# EAGLE library part JST-12 (library con-jst)
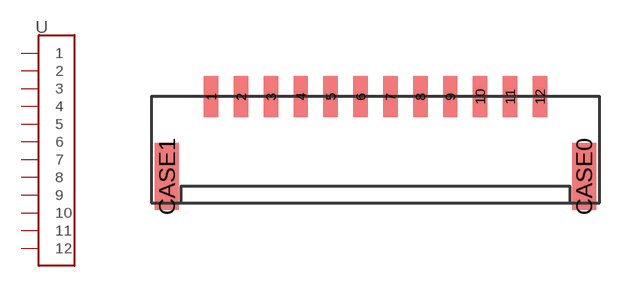
[diagram p3: symbol with the pads of GH-12-V; footprint GH-12-V]

Designator prefix -

## JST-12  [GH-12-V]
1  1
2  2
3  3
4  4
5  5
6  6
7  7
8  8
9  9
10  10
11  11
12  12

## Footprint GH-12-V (pad centres in mm)
smd 0.6 x 1.7: 1 -6.875,2.5; 2 -5.625,2.5; 3 -4.375,2.5; 4 -3.125,2.5; 5 -1.875,2.5; 6 -0.625,2.5; 7 0.625,2.5; 8 1.875,2.5; 9 3.125,2.5; 10 4.375,2.5; 11 5.625,2.5; 12 6.875,2.5
smd 1 x 2.8: CASE0 8.725,-0.85; CASE1 -8.725,-0.85